# Altium schematic symbol library USB_DVI_HDMI_CONNECTOR_ASSEMBLIES.SchLib: 14 symbols
Pins are listed as number, name and electrical type; pins without a type are passive.

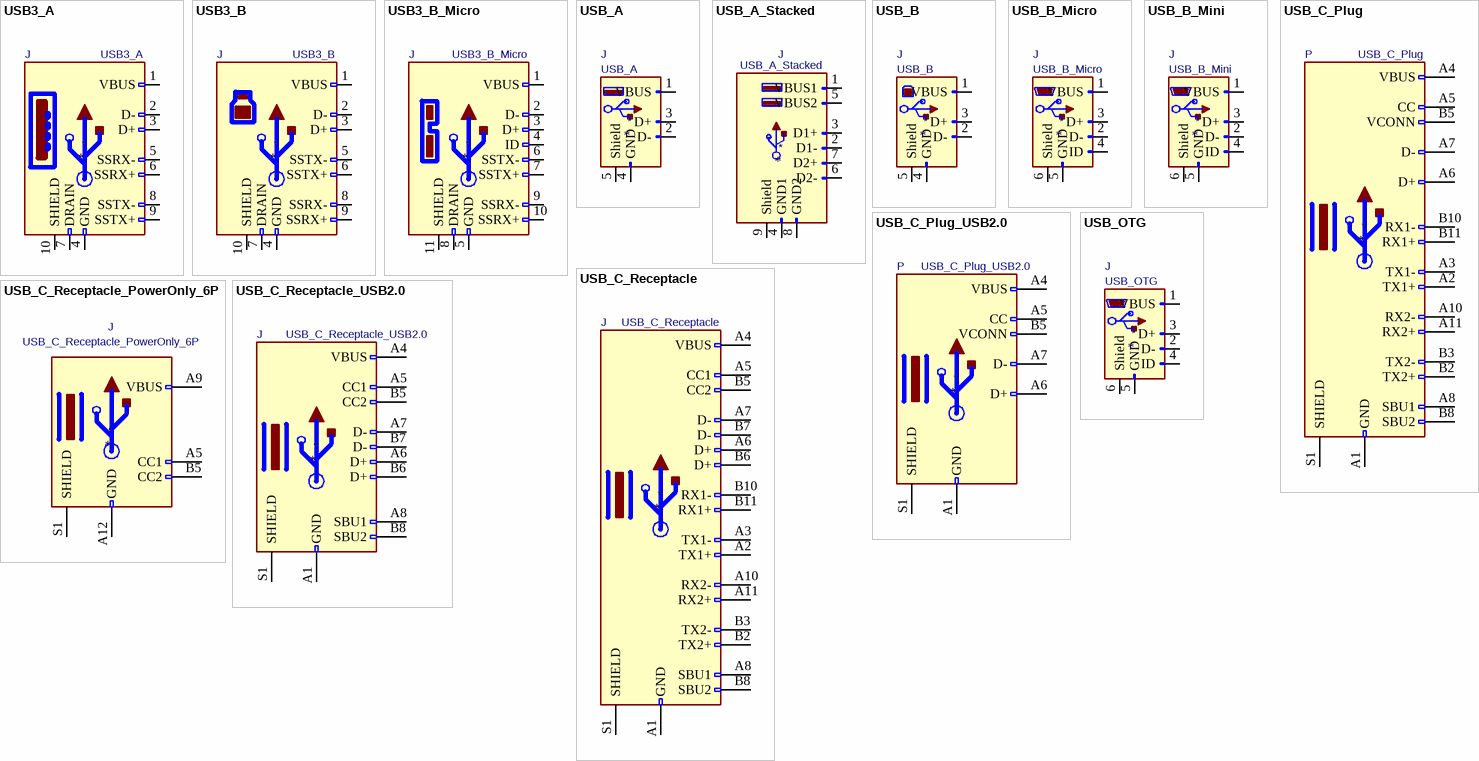
[diagram p0: symbols USB3_A to USB_OTG]

## USB3_A
designator *  value USB3_A  Reference: J
ki_keywords: usb universal serial bus; ki_description: USB 3.0 A connector; Datasheet: ~
pins: 1 VBUS, 2 D-, 3 D+, 4 GND, 5 SSRX-, 6 SSRX+, 7 DRAIN, 8 SSTX-, 9 SSTX+, 10 SHIELD

## USB3_B
designator *  value USB3_B  Reference: J
ki_keywords: usb universal serial bus; ki_description: USB 3.0 B connector; Datasheet: ~
pins: 1 VBUS, 2 D-, 3 D+, 4 GND, 5 SSTX-, 6 SSTX+, 7 DRAIN, 8 SSRX-, 9 SSRX+, 10 SHIELD

## USB3_B_Micro
designator *  value USB3_B_Micro  Reference: J
ki_keywords: usb universal serial bus; ki_description: USB 3.0 Micro-B connector; Datasheet: ~
pins: 1 VBUS, 2 D-, 3 D+, 4 ID, 5 GND, 6 SSTX-, 7 SSTX+, 8 DRAIN, 9 SSRX-, 10 SSRX+, 11 SHIELD

## USB_A
designator *  value USB_A  Reference: J
ki_keywords: connector USB; ki_description: USB Type A connector; ki_fp_filters: USB*; Datasheet: ~
pins: 1 VBUS, 2 D-, 3 D+, 4 GND, 5 Shield

## USB_A_Stacked
designator *  value USB_A_Stacked  Reference: J
ki_keywords: connector USB; ki_description: USB Type A connector, stacked; ki_fp_filters: USB*; Datasheet: ~
pins: 1 VBUS1, 2 D1-, 3 D1+, 4 GND1, 5 VBUS2, 6 D2-, 7 D2+, 8 GND2, 9 Shield

## USB_B
designator *  value USB_B  Reference: J
ki_keywords: connector USB; ki_description: USB Type B connector; ki_fp_filters: USB*; Datasheet: ~
pins: 1 VBUS, 2 D-, 3 D+, 4 GND, 5 Shield

## USB_B_Micro
designator *  value USB_B_Micro  Reference: J
ki_keywords: connector USB micro; ki_description: USB Micro Type B connector; ki_fp_filters: USB*; Datasheet: ~
pins: 1 VBUS, 2 D-, 3 D+, 4 ID, 5 GND, 6 Shield

## USB_B_Mini
designator *  value USB_B_Mini  Reference: J
ki_keywords: connector USB mini; ki_description: USB Mini Type B connector; ki_fp_filters: USB*; Datasheet: ~
pins: 1 VBUS, 2 D-, 3 D+, 4 ID, 5 GND, 6 Shield

## USB_C_Plug
designator *  value USB_C_Plug  Reference: P
ki_keywords: usb universal serial bus; ki_description: USB Type-C Plug connector; ki_fp_filters: USB*C*Plug*; Datasheet: https://www.usb.org/sites/default/files/documents/usb_type-c.zip
pins: A1 GND, A2 TX1+, A3 TX1-, A4 VBUS, A5 CC, A6 D+, A7 D-, A8 SBU1, A9 VBUS hidden, A10 RX2-, A11 RX2+, A12 GND hidden, B1 GND hidden, B2 TX2+, B3 TX2-, B4 VBUS hidden, B5 VCONN, B8 SBU2, B9 VBUS hidden, B10 RX1-, B11 RX1+, B12 GND hidden, S1 SHIELD

## USB_C_Plug_USB2.0
designator *  value USB_C_Plug_USB2.0  Reference: P
ki_keywords: usb universal serial bus type-C USB2.0; ki_description: USB 2.0-only Type-C Plug connector; ki_fp_filters: USB*C*Plug*; Datasheet: https://www.usb.org/sites/default/files/documents/usb_type-c.zip
pins: A1 GND, A4 VBUS, A5 CC, A6 D+, A7 D-, A9 VBUS hidden, A12 GND hidden, B1 GND hidden, B4 VBUS hidden, B5 VCONN, B9 VBUS hidden, B12 GND hidden, S1 SHIELD

## USB_C_Receptacle
designator *  value USB_C_Receptacle  Reference: J
ki_keywords: usb universal serial bus type-C full-featured; ki_description: USB Full-Featured Type-C Receptacle connector; ki_fp_filters: USB*C*Receptacle*; Datasheet: https://www.usb.org/sites/default/files/documents/usb_type-c.zip
pins: A1 GND, A2 TX1+, A3 TX1-, A4 VBUS, A5 CC1, A6 D+, A7 D-, A8 SBU1, A9 VBUS hidden, A10 RX2-, A11 RX2+, A12 GND hidden, B1 GND hidden, B2 TX2+, B3 TX2-, B4 VBUS hidden, B5 CC2, B6 D+, B7 D-, B8 SBU2, B9 VBUS hidden, B10 RX1-, B11 RX1+, B12 GND hidden, S1 SHIELD

## USB_C_Receptacle_PowerOnly_6P
designator *  value USB_C_Receptacle_PowerOnly_6P  Reference: J
ki_keywords: usb universal serial bus type-C power-only charging-only 6P 6C; ki_description: USB Power-Only 6P Type-C Receptacle connector; ki_fp_filters: USB*C*Receptacle*; Datasheet: https://www.usb.org/sites/default/files/documents/usb_type-c.zip
pins: A5 CC1, A9 VBUS, A12 GND, B5 CC2, B9 VBUS hidden, B12 GND hidden, S1 SHIELD

## USB_C_Receptacle_USB2.0
designator *  value USB_C_Receptacle_USB2.0  Reference: J
ki_keywords: usb universal serial bus type-C USB2.0; ki_description: USB 2.0-only Type-C Receptacle connector; ki_fp_filters: USB*C*Receptacle*; Datasheet: https://www.usb.org/sites/default/files/documents/usb_type-c.zip
pins: A1 GND, A4 VBUS, A5 CC1, A6 D+, A7 D-, A8 SBU1, A9 VBUS hidden, A12 GND hidden, B1 GND hidden, B4 VBUS hidden, B5 CC2, B6 D+, B7 D-, B8 SBU2, B9 VBUS hidden, B12 GND hidden, S1 SHIELD

## USB_OTG
designator *  value USB_OTG  Reference: J
ki_keywords: connector USB; ki_description: USB mini/micro connector; ki_fp_filters: USB*; Datasheet: ~
pins: 1 VBUS, 2 D-, 3 D+, 4 ID, 5 GND, 6 Shield